# Altium schematic symbol library Sensor_Current.SchLib: 253 symbols (part 3 of 3)
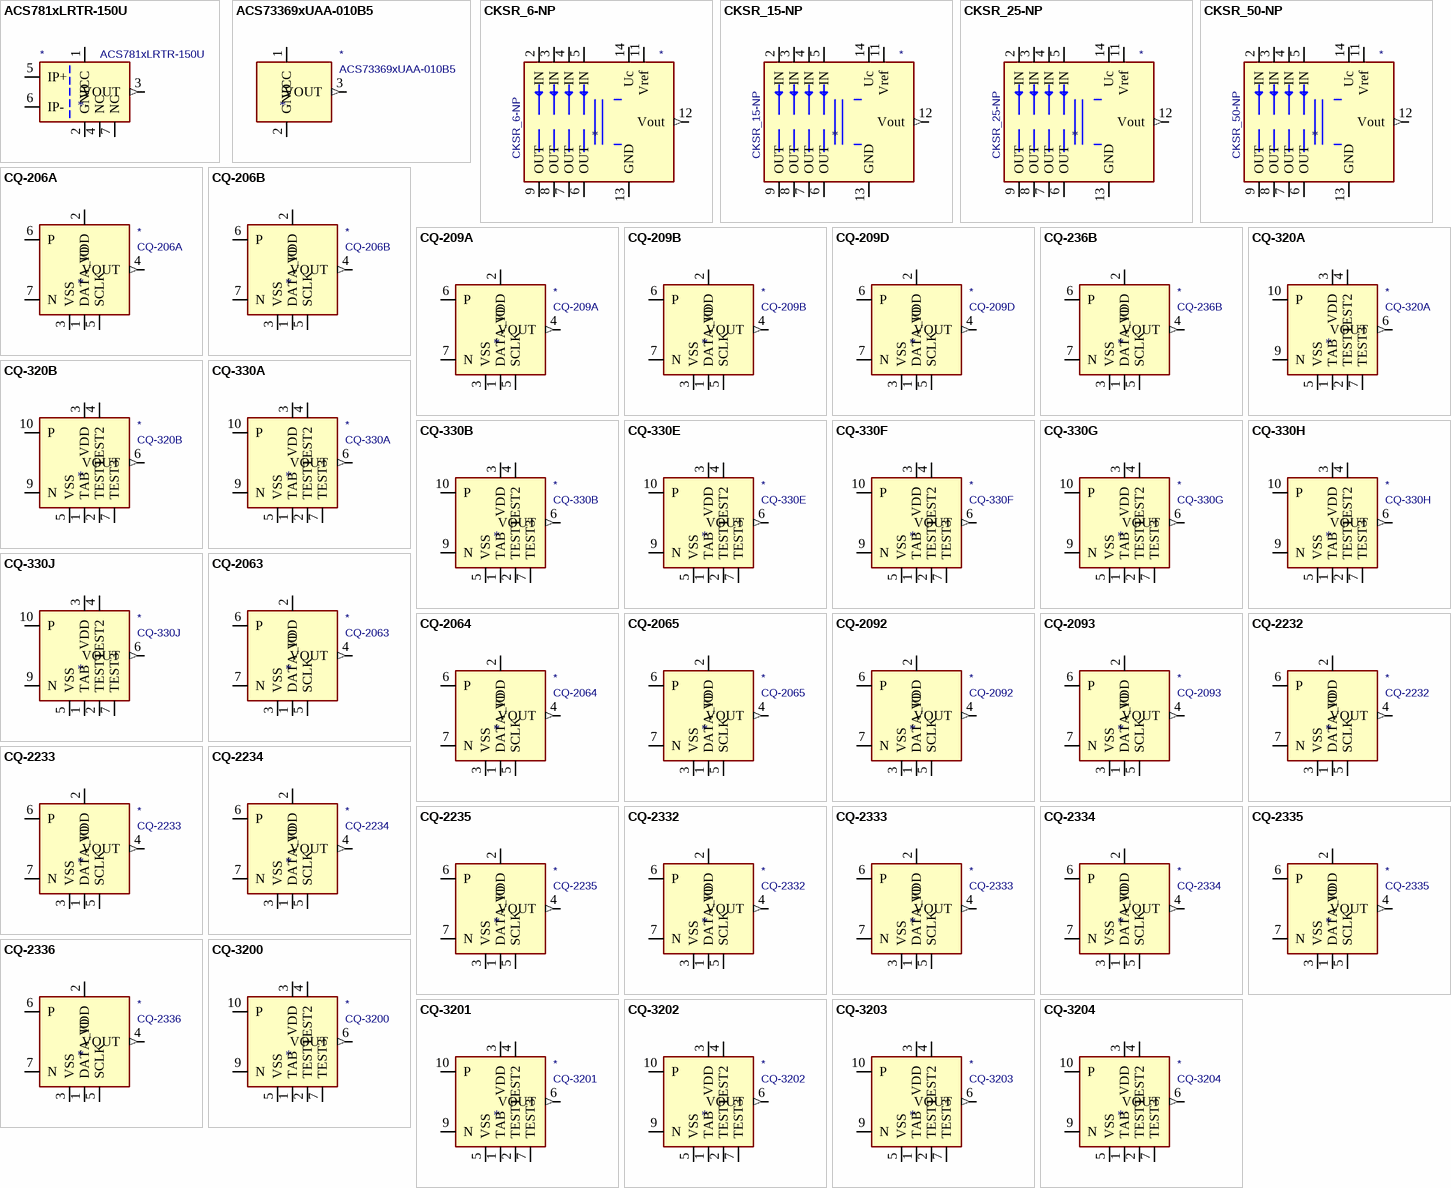
[diagram p8: symbols ACS781xLRTR-150U to CQ-3204]

## CQ-2065
designator *  value CQ-2065
ki_keywords: hall effect current sensor; ki_description: High-Speed Small-Sized Current Sensor, Bidirectional, -85A to +85A, 25mV/A, CQ-7; ki_fp_filters: AKM*CQ*; Footprint: Sensor_Current:AKM_CQ_7; Supplier: http://www.akm.com/akm/en/file/datasheet/CQ-2065.pdf
footprint AKM_CQ_7
pins: 1 DATA_IO (power), 2 VDD (power), 3 VSS (power), 4 VOUT (out), 5 SCLK (power), 6 P, 7 N

## CQ-2092
designator *  value CQ-2092
ki_keywords: hall effect current sensor; ki_description: High-Speed Small-Sized Current Sensor, Bidirectional, -21A to +21A, 100mV/A, CQ-7S; ki_fp_filters: AKM*CQ*S*; Footprint: Sensor_Current:AKM_CQ_7S; Supplier: http://www.akm.com/akm/en/file/datasheet/CQ-2092.pdf
footprint AKM_CQ_7S
pins: 1 DATA_IO (power), 2 VDD (power), 3 VSS (power), 4 VOUT (out), 5 SCLK (power), 6 P, 7 N

## CQ-2093
designator *  value CQ-2093
ki_keywords: hall effect current sensor; ki_description: High-Speed Small-Sized Current Sensor, Bidirectional, -35A to +35A, 60mV/A, CQ-7S; ki_fp_filters: AKM*CQ*S*; Footprint: Sensor_Current:AKM_CQ_7S; Supplier: http://www.akm.com/akm/en/file/datasheet/CQ-2093.pdf
footprint AKM_CQ_7S
pins: 1 DATA_IO (power), 2 VDD (power), 3 VSS (power), 4 VOUT (out), 5 SCLK (power), 6 P, 7 N

## CQ-2232
designator *  value CQ-2232
ki_keywords: hall effect current sensor; ki_description: High-Speed Small Current Sensor, Bidirectional, -21A to +21A, 62.5mV/A, CQ-7; ki_fp_filters: AKM*CQ*; Footprint: Sensor_Current:AKM_CQ_7; Supplier: http://www.akm.com/akm/en/file/datasheet/CQ-2232.pdf
footprint AKM_CQ_7
pins: 1 DATA_IO (power), 2 VDD (power), 3 VSS (power), 4 VOUT (out), 5 SCLK (power), 6 P, 7 N

## CQ-2233
designator *  value CQ-2233
ki_keywords: hall effect current sensor; ki_description: High-Speed Small Current Sensor, Bidirectional, -35A to +35A, 37.5mV/A, CQ-7; ki_fp_filters: AKM*CQ*; Footprint: Sensor_Current:AKM_CQ_7; Supplier: http://www.akm.com/akm/en/file/datasheet/CQ-2233.pdf
footprint AKM_CQ_7
pins: 1 DATA_IO (power), 2 VDD (power), 3 VSS (power), 4 VOUT (out), 5 SCLK (power), 6 P, 7 N

## CQ-2234
designator *  value CQ-2234
ki_keywords: hall effect current sensor; ki_description: High-Speed Small Current Sensor, Bidirectional, -54A to +54A, 24.5mV/A, CQ-7; ki_fp_filters: AKM*CQ*; Footprint: Sensor_Current:AKM_CQ_7; Supplier: http://www.akm.com/akm/en/file/datasheet/CQ-2234.pdf
footprint AKM_CQ_7
pins: 1 DATA_IO (power), 2 VDD (power), 3 VSS (power), 4 VOUT (out), 5 SCLK (power), 6 P, 7 N

## CQ-2235
designator *  value CQ-2235
ki_keywords: hall effect current sensor; ki_description: High-Speed Small Current Sensor, Bidirectional, -85A to +85A, 15.5mV/A, CQ-7; ki_fp_filters: AKM*CQ*; Footprint: Sensor_Current:AKM_CQ_7; Supplier: http://www.akm.com/akm/en/file/datasheet/CQ-2235.pdf
footprint AKM_CQ_7
pins: 1 DATA_IO (power), 2 VDD (power), 3 VSS (power), 4 VOUT (out), 5 SCLK (power), 6 P, 7 N

## CQ-2332
designator *  value CQ-2332
ki_keywords: hall effect current sensor; ki_description: High-Speed Small Current Sensor, Bidirectional, -21A to +21A, 100mV/A, CQ-7; ki_fp_filters: AKM*CQ*; Footprint: Sensor_Current:AKM_CQ_7; Supplier: http://www.akm.com/akm/en/file/datasheet/CQ-2332.pdf
footprint AKM_CQ_7
pins: 1 DATA_IO (power), 2 VDD (power), 3 VSS (power), 4 VOUT (out), 5 SCLK (power), 6 P, 7 N

## CQ-2333
designator *  value CQ-2333
ki_keywords: hall effect current sensor; ki_description: High-Speed Small Current Sensor, Bidirectional, -35A to +35A, 60mV/A, CQ-7; ki_fp_filters: AKM*CQ*; Footprint: Sensor_Current:AKM_CQ_7; Supplier: http://www.akm.com/akm/en/file/datasheet/CQ-2333.pdf
footprint AKM_CQ_7
pins: 1 DATA_IO (power), 2 VDD (power), 3 VSS (power), 4 VOUT (out), 5 SCLK (power), 6 P, 7 N

## CQ-2334
designator *  value CQ-2334
ki_keywords: hall effect current sensor; ki_description: High-Speed Small Current Sensor, Bidirectional, -54A to +54A, 40mV/A, CQ-7; ki_fp_filters: AKM*CQ*; Footprint: Sensor_Current:AKM_CQ_7; Supplier: http://www.akm.com/akm/en/file/datasheet/CQ-2334.pdf
footprint AKM_CQ_7
pins: 1 DATA_IO (power), 2 VDD (power), 3 VSS (power), 4 VOUT (out), 5 SCLK (power), 6 P, 7 N

## CQ-2335
designator *  value CQ-2335
ki_keywords: hall effect current sensor; ki_description: High-Speed Small Current Sensor, Bidirectional, -85A to +85A, 25mV/A, CQ-7; ki_fp_filters: AKM*CQ*; Footprint: Sensor_Current:AKM_CQ_7; Supplier: http://www.akm.com/akm/en/file/datasheet/CQ-2335.pdf
footprint AKM_CQ_7
pins: 1 DATA_IO (power), 2 VDD (power), 3 VSS (power), 4 VOUT (out), 5 SCLK (power), 6 P, 7 N

## CQ-2336
designator *  value CQ-2336
ki_keywords: hall effect current sensor; ki_description: High-Speed Small Current Sensor, Bidirectional, -170A to +170A, 12mV/A, CQ-7; ki_fp_filters: AKM*CQ*; Footprint: Sensor_Current:AKM_CQ_7; Supplier: http://www.akm.com/akm/en/file/datasheet/CQ-2335.pdf
footprint AKM_CQ_7
pins: 1 DATA_IO (power), 2 VDD (power), 3 VSS (power), 4 VOUT (out), 5 SCLK (power), 6 P, 7 N

## CQ-3200
designator *  value CQ-3200
ki_keywords: hall effect current sensor; ki_description: High-Speed Response Coreless Current Sensor, Bidirectional, -8.5A to +8.5A, 155mV/A, VSOP-24; ki_fp_filters: AKM*CQ*VSOP*5.6x7.9mm*P0.65mm*; Footprint: Sensor_Current:AKM_CQ_VSOP-24_5.6x7.9mm_P0.65mm; Supplier: http://www.akm.com/akm/en/file/datasheet/CQ-3200.pdf
footprint AKM_CQ_VSOP-24_5.6x7.9mm_P0.65mm
pins: 1 TAB (power), 2 TEST1 (power), 3 VDD (power), 4 TEST2 (power), 5 VSS (power), 6 VOUT (out), 7 TEST3 (power), 8 TAB hidden, 9 N, 10 P

## CQ-3201
designator *  value CQ-3201
ki_keywords: hall effect current sensor; ki_description: High-Speed Response Coreless Current Sensor, Bidirectional, -10.1A to +10.1A, 130mV/A, VSOP-24; ki_fp_filters: AKM*CQ*VSOP*5.6x7.9mm*P0.65mm*; Footprint: Sensor_Current:AKM_CQ_VSOP-24_5.6x7.9mm_P0.65mm; Supplier: http://www.akm.com/akm/en/file/datasheet/CQ-3201.pdf
footprint AKM_CQ_VSOP-24_5.6x7.9mm_P0.65mm
pins: 1 TAB (power), 2 TEST1 (power), 3 VDD (power), 4 TEST2 (power), 5 VSS (power), 6 VOUT (out), 7 TEST3 (power), 8 TAB hidden, 9 N, 10 P

## CQ-3202
designator *  value CQ-3202
ki_keywords: hall effect current sensor; ki_description: High-Speed Response Coreless Current Sensor, Bidirectional, -21.1A to +21.1A, 62.5mV/A, VSOP-24; ki_fp_filters: AKM*CQ*VSOP*5.6x7.9mm*P0.65mm*; Footprint: Sensor_Current:AKM_CQ_VSOP-24_5.6x7.9mm_P0.65mm; Supplier: http://www.akm.com/akm/en/file/datasheet/CQ-3202.pdf
footprint AKM_CQ_VSOP-24_5.6x7.9mm_P0.65mm
pins: 1 TAB (power), 2 TEST1 (power), 3 VDD (power), 4 TEST2 (power), 5 VSS (power), 6 VOUT (out), 7 TEST3 (power), 8 TAB hidden, 9 N, 10 P

## CQ-3203
designator *  value CQ-3203
ki_keywords: hall effect current sensor; ki_description: High-Speed Response Coreless Current Sensor, Bidirectional, -35.7A to +35.7A, 37mV/A, VSOP-24; ki_fp_filters: AKM*CQ*VSOP*5.6x7.9mm*P0.65mm*; Footprint: Sensor_Current:AKM_CQ_VSOP-24_5.6x7.9mm_P0.65mm; Supplier: http://www.akm.com/akm/en/file/datasheet/CQ-3203.pdf
footprint AKM_CQ_VSOP-24_5.6x7.9mm_P0.65mm
pins: 1 TAB (power), 2 TEST1 (power), 3 VDD (power), 4 TEST2 (power), 5 VSS (power), 6 VOUT (out), 7 TEST3 (power), 8 TAB hidden, 9 N, 10 P

## CQ-3204
designator *  value CQ-3204
ki_keywords: hall effect current sensor; ki_description: High-Speed Response Coreless Current Sensor, Bidirectional, -44.0A to +44.0A, 30mV/A, VSOP-24; ki_fp_filters: AKM*CQ*VSOP*5.6x7.9mm*P0.65mm*; Footprint: Sensor_Current:AKM_CQ_VSOP-24_5.6x7.9mm_P0.65mm; Supplier: http://www.akm.com/akm/en/file/datasheet/CQ-3204.pdf
footprint AKM_CQ_VSOP-24_5.6x7.9mm_P0.65mm
pins: 1 TAB (power), 2 TEST1 (power), 3 VDD (power), 4 TEST2 (power), 5 VSS (power), 6 VOUT (out), 7 TEST3 (power), 8 TAB hidden, 9 N, 10 P

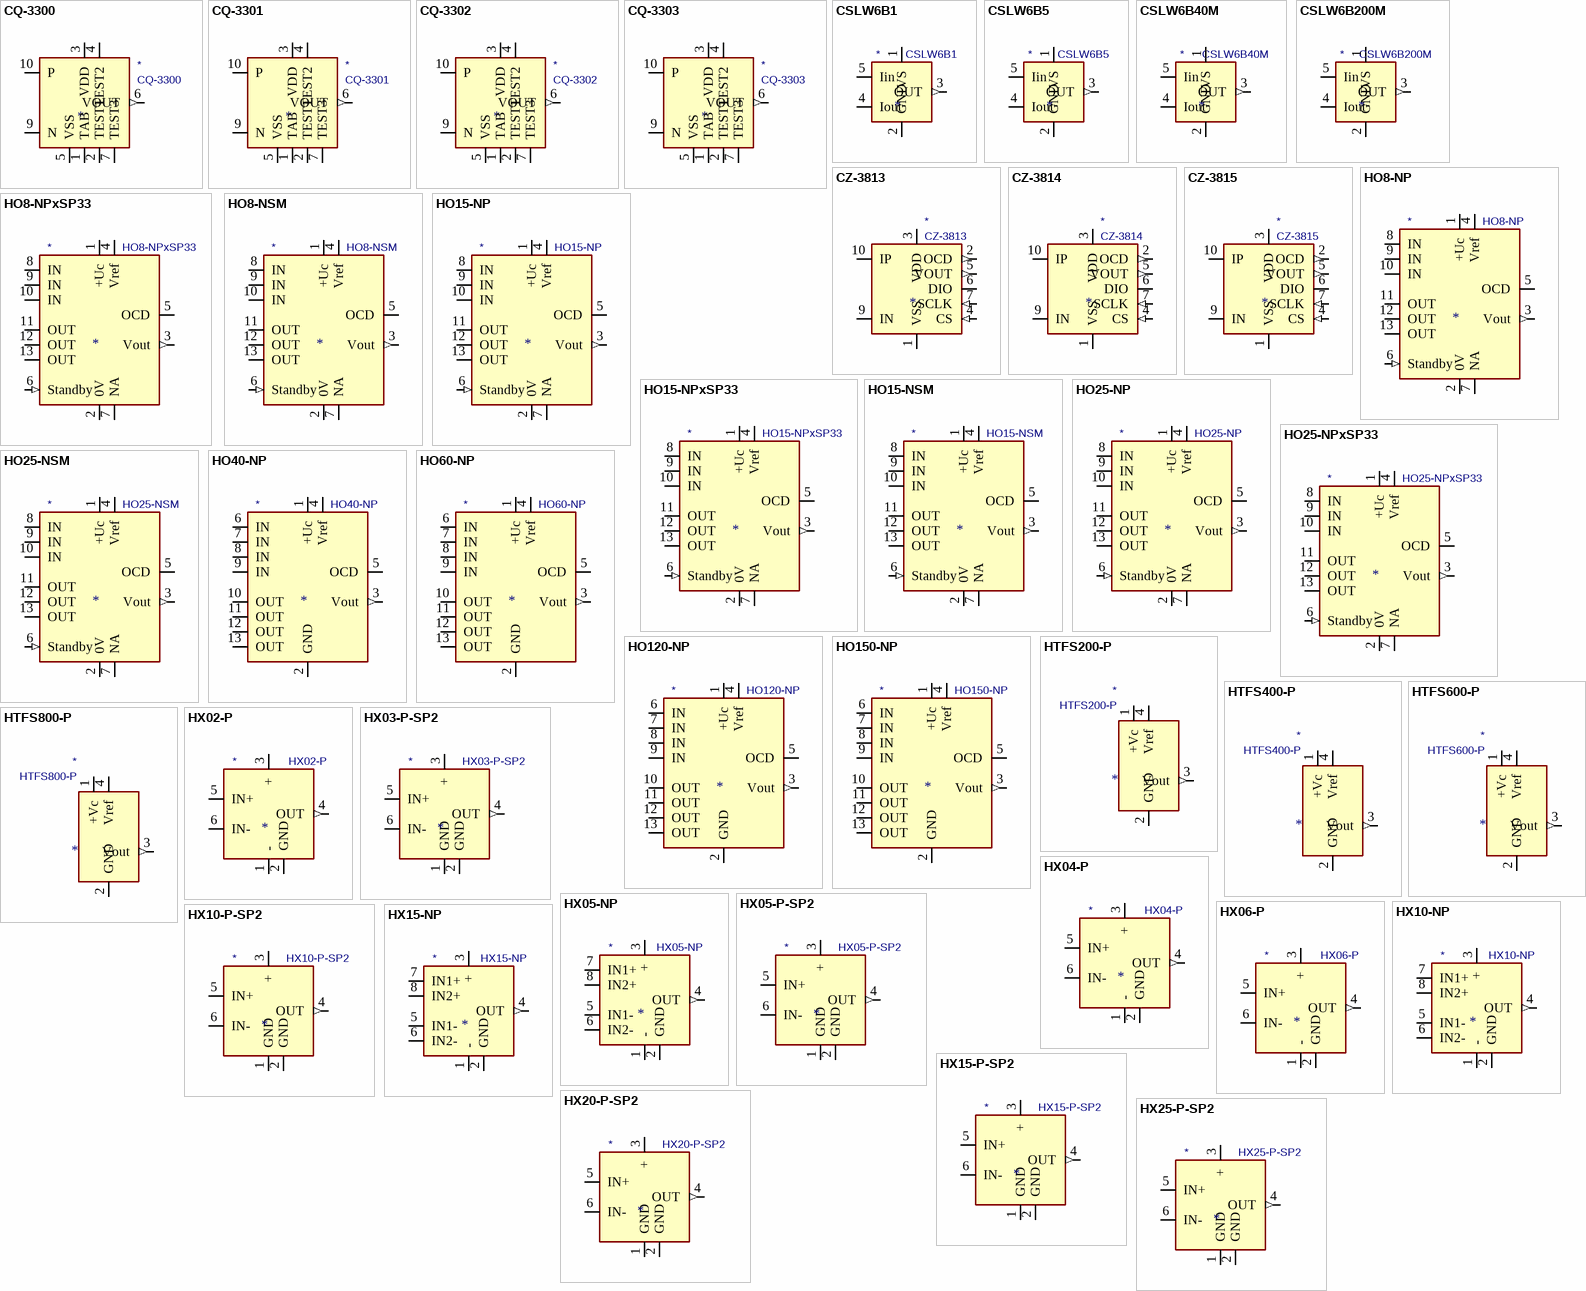
[diagram p5: symbols CQ-3300 to HX25-P-SP2]

## CQ-3300
designator *  value CQ-3300
ki_keywords: hall effect current sensor; ki_description: High-Speed Response Coreless Current Sensor, Bidirectional, -6.4A to +6.4A, 325mV/A, VSOP-24; ki_fp_filters: AKM*CQ*VSOP*5.6x7.9mm*P0.65mm*; Footprint: Sensor_Current:AKM_CQ_VSOP-24_5.6x7.9mm_P0.65mm; Supplier: http://www.akm.com/akm/en/file/datasheet/CQ-3300.pdf
footprint AKM_CQ_VSOP-24_5.6x7.9mm_P0.65mm
pins: 1 TAB (power), 2 TEST1 (power), 3 VDD (power), 4 TEST2 (power), 5 VSS (power), 6 VOUT (out), 7 TEST3 (power), 8 TAB hidden, 9 N, 10 P

## CQ-3301
designator *  value CQ-3301
ki_keywords: hall effect current sensor; ki_description: High-Speed Response Coreless Current Sensor, Bidirectional, -10.7A to +10.7A, 195mV/A, VSOP-24; ki_fp_filters: AKM*CQ*VSOP*5.6x7.9mm*P0.65mm*; Footprint: Sensor_Current:AKM_CQ_VSOP-24_5.6x7.9mm_P0.65mm; Supplier: http://www.akm.com/akm/en/file/datasheet/CQ-3301.pdf
footprint AKM_CQ_VSOP-24_5.6x7.9mm_P0.65mm
pins: 1 TAB (power), 2 TEST1 (power), 3 VDD (power), 4 TEST2 (power), 5 VSS (power), 6 VOUT (out), 7 TEST3 (power), 8 TAB hidden, 9 N, 10 P

## CQ-3302
designator *  value CQ-3302
ki_keywords: hall effect current sensor; ki_description: High-Speed Response Coreless Current Sensor, Bidirectional, -21.0A to +21.0A, 100mV/A, VSOP-24; ki_fp_filters: AKM*CQ*VSOP*5.6x7.9mm*P0.65mm*; Footprint: Sensor_Current:AKM_CQ_VSOP-24_5.6x7.9mm_P0.65mm; Supplier: http://www.akm.com/akm/en/file/datasheet/CQ-3302.pdf
footprint AKM_CQ_VSOP-24_5.6x7.9mm_P0.65mm
pins: 1 TAB (power), 2 TEST1 (power), 3 VDD (power), 4 TEST2 (power), 5 VSS (power), 6 VOUT (out), 7 TEST3 (power), 8 TAB hidden, 9 N, 10 P

## CQ-3303
designator *  value CQ-3303
ki_keywords: hall effect current sensor; ki_description: High-Speed Response Coreless Current Sensor, Bidirectional, -35.0A to +35.0A, 60mV/A, VSOP-24; ki_fp_filters: AKM*CQ*VSOP*5.6x7.9mm*P0.65mm*; Footprint: Sensor_Current:AKM_CQ_VSOP-24_5.6x7.9mm_P0.65mm; Supplier: http://www.akm.com/akm/en/file/datasheet/CQ-3303.pdf
footprint AKM_CQ_VSOP-24_5.6x7.9mm_P0.65mm
pins: 1 TAB (power), 2 TEST1 (power), 3 VDD (power), 4 TEST2 (power), 5 VSS (power), 6 VOUT (out), 7 TEST3 (power), 8 TAB hidden, 9 N, 10 P

## CSLW6B1
designator *  value CSLW6B1
ki_keywords: hall current sensor; ki_description: Miniature Wired Open-Loop Current Sensors, 1A; ki_fp_filters: Honeywell*CSLW*; Footprint: Sensor_Current:Honeywell_CSLW; Supplier: https://sensing.honeywell.com/honeywell-sensing-cslw-series-product-sheet-005861-1-en.pdf
footprint Honeywell_CSLW
pins: 1 VS (power), 2 GND (power), 3 OUT (out), 4 Iout, 5 Iin

## CSLW6B5
designator *  value CSLW6B5
ki_keywords: hall current sensor; ki_description: Miniature Wired Open-Loop Current Sensors, 5A; ki_fp_filters: Honeywell*CSLW*; Footprint: Sensor_Current:Honeywell_CSLW; Supplier: https://sensing.honeywell.com/honeywell-sensing-cslw-series-product-sheet-005861-1-en.pdf
footprint Honeywell_CSLW
pins: 1 VS (power), 2 GND (power), 3 OUT (out), 4 Iout, 5 Iin

## CSLW6B40M
designator *  value CSLW6B40M
ki_keywords: hall current sensor; ki_description: Miniature Wired Open-Loop Current Sensors, 40mA; ki_fp_filters: Honeywell*CSLW*; Footprint: Sensor_Current:Honeywell_CSLW; Supplier: https://sensing.honeywell.com/honeywell-sensing-cslw-series-product-sheet-005861-1-en.pdf
footprint Honeywell_CSLW
pins: 1 VS (power), 2 GND (power), 3 OUT (out), 4 Iout, 5 Iin

## CSLW6B200M
designator *  value CSLW6B200M
ki_keywords: hall current sensor; ki_description: Miniature Wired Open-Loop Current Sensors, 200mA; ki_fp_filters: Honeywell*CSLW*; Footprint: Sensor_Current:Honeywell_CSLW; Supplier: https://sensing.honeywell.com/honeywell-sensing-cslw-series-product-sheet-005861-1-en.pdf
footprint Honeywell_CSLW
pins: 1 VS (power), 2 GND (power), 3 OUT (out), 4 Iout, 5 Iin

## CZ-3813
designator *  value CZ-3813
ki_keywords: hall effect current sensor; ki_description: Coreless Current Sensor, Bidirectional, -33.0A to +33.0A, 60mV/A, VSOP-24; ki_fp_filters: AKM*CZ*SSOP*6.5x8.1mm*P0.95mm*; Footprint: Sensor_Current:AKM_CZ_SSOP-10_6.5x8.1mm_P0.95mm; Supplier: http://www.akm.com/akm/en/file/datasheet/CZ-3813.pdf
footprint AKM_CZ_SSOP-10_6.5x8.1mm_P0.95mm
pins: 1 VSS (power), 2 OCD (out), 3 VDD (power), 4 CS (in), 5 VOUT (out), 6 DIO (io), 7 SCLK (in), 8 VSS hidden, 9 IN, 10 IP

## CZ-3814
designator *  value CZ-3814
ki_keywords: hall effect current sensor; ki_description: Coreless Current Sensor, Bidirectional, -50.0A to +50.0A, 40mV/A, VSOP-24; ki_fp_filters: AKM*CZ*SSOP*6.5x8.1mm*P0.95mm*; Footprint: Sensor_Current:AKM_CZ_SSOP-10_6.5x8.1mm_P0.95mm; Supplier: http://www.akm.com/akm/en/file/datasheet/CZ-3814.pdf
footprint AKM_CZ_SSOP-10_6.5x8.1mm_P0.95mm
pins: 1 VSS (power), 2 OCD (out), 3 VDD (power), 4 CS (in), 5 VOUT (out), 6 DIO (io), 7 SCLK (in), 8 VSS hidden, 9 IN, 10 IP

## CZ-3815
designator *  value CZ-3815
ki_keywords: hall effect current sensor; ki_description: Coreless Current Sensor, Bidirectional, -60.0A to +60.0A, 33mV/A, VSOP-24; ki_fp_filters: AKM*CZ*SSOP*6.5x8.1mm*P0.95mm*; Footprint: Sensor_Current:AKM_CZ_SSOP-10_6.5x8.1mm_P0.95mm; Supplier: http://www.akm.com/akm/en/file/datasheet/CZ-3815.pdf
footprint AKM_CZ_SSOP-10_6.5x8.1mm_P0.95mm
pins: 1 VSS (power), 2 OCD (out), 3 VDD (power), 4 CS (in), 5 VOUT (out), 6 DIO (io), 7 SCLK (in), 8 VSS hidden, 9 IN, 10 IP

## HO8-NP
designator *  value HO8-NP
ki_keywords: current transducer; ki_description: Current Transducer, 8A, Unipolar, 5V; ki_fp_filters: LEM*HO8*NP*; Footprint: Sensor_Current:LEM_HO8-NP; Supplier: https://www.lem.com/sites/default/files/products_datasheets/ho-np-0000_series.pdf
footprint LEM_HO8-NP
pins: 1 +Uc (power), 2 0V (power), 3 Vout (out), 4 Vref, 5 OCD (oc), 6 Standby (in), 7 NA, 8 IN, 9 IN, 10 IN, 11 OUT, 12 OUT, 13 OUT

## HO8-NPxSP33
designator *  value HO8-NPxSP33
ki_keywords: current transducer; ki_description: Current Transducer, 8A, Unipolar, 3.3V; ki_fp_filters: LEM*HO8*NP*; Footprint: Sensor_Current:LEM_HO8-NP; Supplier: https://www.lem.com/sites/default/files/products_datasheets/ho-np_sp33-1000_series.pdf
footprint LEM_HO8-NP
pins: 1 +Uc (power), 2 0V (power), 3 Vout (out), 4 Vref, 5 OCD (oc), 6 Standby (in), 7 NA, 8 IN, 9 IN, 10 IN, 11 OUT, 12 OUT, 13 OUT

## HO8-NSM
designator *  value HO8-NSM
ki_keywords: current transducer; ki_description: Current Transducer, 8A, Unipolar, 5V; ki_fp_filters: LEM*HO8*NSM*; Footprint: Sensor_Current:LEM_HO8-NSM; Supplier: https://www.lem.com/sites/default/files/products_datasheets/ho-nsm-0000_series.pdf
footprint LEM_HO8-NSM
pins: 1 +Uc (power), 2 0V (power), 3 Vout (out), 4 Vref, 5 OCD (oc), 6 Standby (in), 7 NA, 8 IN, 9 IN, 10 IN, 11 OUT, 12 OUT, 13 OUT

## HO15-NP
designator *  value HO15-NP
ki_keywords: current transducer; ki_description: Current Transducer, 15A, Unipolar, 5V; ki_fp_filters: LEM*HO8*NP*; Footprint: Sensor_Current:LEM_HO8-NP; Supplier: https://www.lem.com/sites/default/files/products_datasheets/ho-np-0000_series.pdf
footprint LEM_HO8-NP
pins: 1 +Uc (power), 2 0V (power), 3 Vout (out), 4 Vref, 5 OCD (oc), 6 Standby (in), 7 NA, 8 IN, 9 IN, 10 IN, 11 OUT, 12 OUT, 13 OUT

## HO15-NPxSP33
designator *  value HO15-NPxSP33
ki_keywords: current transducer; ki_description: Current Transducer, 15A, Unipolar, 3.3V; ki_fp_filters: LEM*HO8*NP*; Footprint: Sensor_Current:LEM_HO8-NP; Supplier: https://www.lem.com/sites/default/files/products_datasheets/ho-np_sp33-1000_series.pdf
footprint LEM_HO8-NP
pins: 1 +Uc (power), 2 0V (power), 3 Vout (out), 4 Vref, 5 OCD (oc), 6 Standby (in), 7 NA, 8 IN, 9 IN, 10 IN, 11 OUT, 12 OUT, 13 OUT

## HO15-NSM
designator *  value HO15-NSM
ki_keywords: current transducer; ki_description: Current Transducer, 15A, Unipolar, 5V; ki_fp_filters: LEM*HO8*NSM*; Footprint: Sensor_Current:LEM_HO8-NSM; Supplier: https://www.lem.com/sites/default/files/products_datasheets/ho-nsm-0000_series.pdf
footprint LEM_HO8-NSM
pins: 1 +Uc (power), 2 0V (power), 3 Vout (out), 4 Vref, 5 OCD (oc), 6 Standby (in), 7 NA, 8 IN, 9 IN, 10 IN, 11 OUT, 12 OUT, 13 OUT

## HO25-NP
designator *  value HO25-NP
ki_keywords: current transducer; ki_description: Current Transducer, 25A, Unipolar, 5V; ki_fp_filters: LEM*HO8*NP*; Footprint: Sensor_Current:LEM_HO8-NP; Supplier: https://www.lem.com/sites/default/files/products_datasheets/ho-np-0000_series.pdf
footprint LEM_HO8-NP
pins: 1 +Uc (power), 2 0V (power), 3 Vout (out), 4 Vref, 5 OCD (oc), 6 Standby (in), 7 NA, 8 IN, 9 IN, 10 IN, 11 OUT, 12 OUT, 13 OUT

## HO25-NPxSP33
designator *  value HO25-NPxSP33
ki_keywords: current transducer; ki_description: Current Transducer, 25A, Unipolar, 3.3V; ki_fp_filters: LEM*HO8*NP*; Footprint: Sensor_Current:LEM_HO8-NP; Supplier: https://www.lem.com/sites/default/files/products_datasheets/ho-np_sp33-1000_series.pdf
footprint LEM_HO8-NP
pins: 1 +Uc (power), 2 0V (power), 3 Vout (out), 4 Vref, 5 OCD (oc), 6 Standby (in), 7 NA, 8 IN, 9 IN, 10 IN, 11 OUT, 12 OUT, 13 OUT

## HO25-NSM
designator *  value HO25-NSM
ki_keywords: current transducer; ki_description: Current Transducer, 25A, Unipolar, 5V; ki_fp_filters: LEM*HO8*NSM*; Footprint: Sensor_Current:LEM_HO8-NSM; Supplier: https://www.lem.com/sites/default/files/products_datasheets/ho-nsm-0000_series.pdf
footprint LEM_HO8-NSM
pins: 1 +Uc (power), 2 0V (power), 3 Vout (out), 4 Vref, 5 OCD (oc), 6 Standby (in), 7 NA, 8 IN, 9 IN, 10 IN, 11 OUT, 12 OUT, 13 OUT

## HO40-NP
designator *  value HO40-NP
ki_keywords: current transducer; ki_description: Current Transducer, 40A, Unipolar, 5V; ki_fp_filters: LEM*HO40*NP*; Footprint: Sensor_Current:LEM_HO40-NP; Supplier: https://www.lem.com/sites/default/files/products_datasheets/ho-np_0100__1100_series.pdf
footprint LEM_HO40-NP
pins: 1 +Uc (power), 2 GND (power), 3 Vout (out), 4 Vref, 5 OCD (oc), 6 IN, 7 IN, 8 IN, 9 IN, 10 OUT, 11 OUT, 12 OUT, 13 OUT

## HO60-NP
designator *  value HO60-NP
ki_keywords: current transducer; ki_description: Current Transducer, 60A, Unipolar, 5V; ki_fp_filters: LEM*HO40*NP*; Footprint: Sensor_Current:LEM_HO40-NP; Supplier: https://www.lem.com/sites/default/files/products_datasheets/ho-np_0100__1100_series.pdf
footprint LEM_HO40-NP
pins: 1 +Uc (power), 2 GND (power), 3 Vout (out), 4 Vref, 5 OCD (oc), 6 IN, 7 IN, 8 IN, 9 IN, 10 OUT, 11 OUT, 12 OUT, 13 OUT

## HO120-NP
designator *  value HO120-NP
ki_keywords: current transducer; ki_description: Current Transducer, 40A, Unipolar, 5V; ki_fp_filters: LEM*HO40*NP*; Footprint: Sensor_Current:LEM_HO40-NP; Supplier: https://www.lem.com/sites/default/files/products_datasheets/ho-np_0100__1100_series.pdf
footprint LEM_HO40-NP
pins: 1 +Uc (power), 2 GND (power), 3 Vout (out), 4 Vref, 5 OCD (oc), 6 IN, 7 IN, 8 IN, 9 IN, 10 OUT, 11 OUT, 12 OUT, 13 OUT

## HO150-NP
designator *  value HO150-NP
ki_keywords: current transducer; ki_description: Current Transducer, 40A, Unipolar, 5V; ki_fp_filters: LEM*HO40*NP*; Footprint: Sensor_Current:LEM_HO40-NP; Supplier: https://www.lem.com/sites/default/files/products_datasheets/ho-np_0100__1100_series.pdf
footprint LEM_HO40-NP
pins: 1 +Uc (power), 2 GND (power), 3 Vout (out), 4 Vref, 5 OCD (oc), 6 IN, 7 IN, 8 IN, 9 IN, 10 OUT, 11 OUT, 12 OUT, 13 OUT

## HTFS200-P
designator *  value HTFS200-P
ki_keywords: current transducer; ki_description: Current Transducer, 200A, Unipolar, 5V; ki_fp_filters: LEM*HTFS*; Footprint: Sensor_Current:LEM_HTFS; Supplier: https://www.lem.com/sites/default/files/products_datasheets/htfs_200_800-p.pdf
footprint LEM_HTFS
pins: 1 +Vc (power), 2 GND (power), 3 Vout (out), 4 Vref

## HTFS400-P
designator *  value HTFS400-P
ki_keywords: current transducer; ki_description: Current Transducer, 400A, Unipolar, 5V; ki_fp_filters: LEM*HTFS*; Footprint: Sensor_Current:LEM_HTFS; Supplier: https://www.lem.com/sites/default/files/products_datasheets/htfs_200_800-p.pdf
footprint LEM_HTFS
pins: 1 +Vc (power), 2 GND (power), 3 Vout (out), 4 Vref

## HTFS600-P
designator *  value HTFS600-P
ki_keywords: current transducer; ki_description: Current Transducer, 600A, Unipolar, 5V; ki_fp_filters: LEM*HTFS*; Footprint: Sensor_Current:LEM_HTFS; Supplier: https://www.lem.com/sites/default/files/products_datasheets/htfs_200_800-p.pdf
footprint LEM_HTFS
pins: 1 +Vc (power), 2 GND (power), 3 Vout (out), 4 Vref

## HTFS800-P
designator *  value HTFS800-P
ki_keywords: current transducer; ki_description: Current Transducer, 800A, Unipolar, 5V; ki_fp_filters: LEM*HTFS*; Footprint: Sensor_Current:LEM_HTFS; Supplier: https://www.lem.com/sites/default/files/products_datasheets/htfs_200_800-p.pdf
footprint LEM_HTFS
pins: 1 +Vc (power), 2 GND (power), 3 Vout (out), 4 Vref

## HX02-P
designator *  value HX02-P
ki_keywords: current transducer; ki_description: Current Transducer, 2A, Bipolar, +/-15V; ki_fp_filters: LEM*HX02*P*; Footprint: Sensor_Current:LEM_HX02-P; Supplier: https://www.lem.com/sites/default/files/products_datasheets/hx%202_6-p_e%20v5.pdf
footprint LEM_HX02-P
pins: 1 - (power), 2 GND (power), 3 + (power), 4 OUT (out), 5 IN+, 6 IN-

## HX03-P-SP2
designator *  value HX03-P-SP2
ki_keywords: current transducer; ki_description: Current Transducer, 3A, Unipolar, +/-15V; ki_fp_filters: LEM*HX03*P*SP2*; Footprint: Sensor_Current:LEM_HX03-P-SP2; Supplier: https://www.lem.com/sites/default/files/products_datasheets/hx%203_50-p_sp2_e%20v07.pdf
footprint LEM_HX03-P-SP2
pins: 1 GND (power), 2 GND (power), 3 + (power), 4 OUT (out), 5 IN+, 6 IN-

## HX04-P
designator *  value HX04-P
ki_keywords: current transducer; ki_description: Current Transducer, 4A, Bipolar, +/-15V; ki_fp_filters: LEM*HX04*P*; Footprint: Sensor_Current:LEM_HX04-P; Supplier: https://www.lem.com/sites/default/files/products_datasheets/hx%202_6-p_e%20v5.pdf
footprint LEM_HX04-P
pins: 1 - (power), 2 GND (power), 3 + (power), 4 OUT (out), 5 IN+, 6 IN-

## HX05-NP
designator *  value HX05-NP
ki_keywords: current transducer; ki_description: Current Transducer, 5A, Bipolar, +/-15V; ki_fp_filters: LEM*HX05*NP*; Footprint: Sensor_Current:LEM_HX05-NP; Supplier: https://www.lem.com/sites/default/files/products_datasheets/hx%205_15-np_e%20v10.pdf
footprint LEM_HX05-NP
pins: 1 - (power), 2 GND (power), 3 + (power), 4 OUT (out), 5 IN1-, 6 IN2-, 7 IN1+, 8 IN2+

## HX05-P-SP2
designator *  value HX05-P-SP2
ki_keywords: current transducer; ki_description: Current Transducer, 5A, Unipolar, +/-15V; ki_fp_filters: LEM*HX05*P*SP2*; Footprint: Sensor_Current:LEM_HX05-P-SP2; Supplier: https://www.lem.com/sites/default/files/products_datasheets/hx%203_50-p_sp2_e%20v07.pdf
footprint LEM_HX05-P-SP2
pins: 1 GND (power), 2 GND (power), 3 + (power), 4 OUT (out), 5 IN+, 6 IN-

## HX06-P
designator *  value HX06-P
ki_keywords: current transducer; ki_description: Current Transducer, 6A, Bipolar, +/-15V; ki_fp_filters: LEM*HX06*P*; Footprint: Sensor_Current:LEM_HX06-P; Supplier: https://www.lem.com/sites/default/files/products_datasheets/hx%202_6-p_e%20v5.pdf
footprint LEM_HX06-P
pins: 1 - (power), 2 GND (power), 3 + (power), 4 OUT (out), 5 IN+, 6 IN-

## HX10-NP
designator *  value HX10-NP
ki_keywords: current transducer; ki_description: Current Transducer, 10A, Bipolar, +/-15V; ki_fp_filters: LEM*HX10*NP*; Footprint: Sensor_Current:LEM_HX10-NP; Supplier: https://www.lem.com/sites/default/files/products_datasheets/hx%205_15-np_e%20v10.pdf
footprint LEM_HX10-NP
pins: 1 - (power), 2 GND (power), 3 + (power), 4 OUT (out), 5 IN1-, 6 IN2-, 7 IN1+, 8 IN2+

## HX10-P-SP2
designator *  value HX10-P-SP2
ki_keywords: current transducer; ki_description: Current Transducer, 10A, Unipolar, +/-15V; ki_fp_filters: LEM*HX10*P*SP2*; Footprint: Sensor_Current:LEM_HX10-P-SP2; Supplier: https://www.lem.com/sites/default/files/products_datasheets/hx%203_50-p_sp2_e%20v07.pdf
footprint LEM_HX10-P-SP2
pins: 1 GND (power), 2 GND (power), 3 + (power), 4 OUT (out), 5 IN+, 6 IN-

## HX15-NP
designator *  value HX15-NP
ki_keywords: current transducer; ki_description: Current Transducer, 15A, Bipolar, +/-15V; ki_fp_filters: LEM*HX15*NP*; Footprint: Sensor_Current:LEM_HX15-NP; Supplier: https://www.lem.com/sites/default/files/products_datasheets/hx%205_15-np_e%20v10.pdf
footprint LEM_HX15-NP
pins: 1 - (power), 2 GND (power), 3 + (power), 4 OUT (out), 5 IN1-, 6 IN2-, 7 IN1+, 8 IN2+

## HX15-P-SP2
designator *  value HX15-P-SP2
ki_keywords: current transducer; ki_description: Current Transducer, 15A, Unipolar, +/-15V; ki_fp_filters: LEM*HX15*P*SP2*; Footprint: Sensor_Current:LEM_HX15-P-SP2; Supplier: https://www.lem.com/sites/default/files/products_datasheets/hx%203_50-p_sp2_e%20v07.pdf
footprint LEM_HX15-P-SP2
pins: 1 GND (power), 2 GND (power), 3 + (power), 4 OUT (out), 5 IN+, 6 IN-

## HX20-P-SP2
designator *  value HX20-P-SP2
ki_keywords: current transducer; ki_description: Current Transducer, 20A, Unipolar, +/-15V; ki_fp_filters: LEM*HX20*P*SP2*; Footprint: Sensor_Current:LEM_HX20-P-SP2; Supplier: https://www.lem.com/sites/default/files/products_datasheets/hx%203_50-p_sp2_e%20v07.pdf
footprint LEM_HX20-P-SP2
pins: 1 GND (power), 2 GND (power), 3 + (power), 4 OUT (out), 5 IN+, 6 IN-

## HX25-P-SP2
designator *  value HX25-P-SP2
ki_keywords: current transducer; ki_description: Current Transducer, 25A, Unipolar, +/-15V; ki_fp_filters: LEM*HX25*P*SP2*; Footprint: Sensor_Current:LEM_HX25-P-SP2; Supplier: https://www.lem.com/sites/default/files/products_datasheets/hx%203_50-p_sp2_e%20v07.pdf
footprint LEM_HX25-P-SP2
pins: 1 GND (power), 2 GND (power), 3 + (power), 4 OUT (out), 5 IN+, 6 IN-

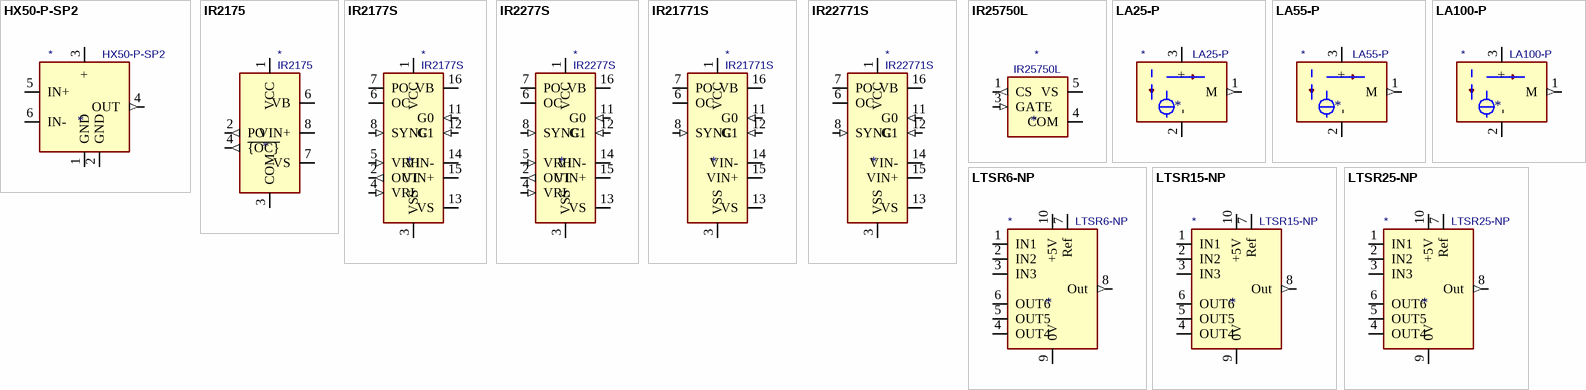
[diagram p6: symbols HX50-P-SP2 to LTSR25-NP]

## HX50-P-SP2
designator *  value HX50-P-SP2
ki_keywords: current transducer; ki_description: Current Transducer, 50A, Unipolar, +/-15V; ki_fp_filters: LEM*HX50*P*SP2*; Footprint: Sensor_Current:LEM_HX50-P-SP2; Supplier: https://www.lem.com/sites/default/files/products_datasheets/hx%203_50-p_sp2_e%20v07.pdf
footprint LEM_HX50-P-SP2
pins: 1 GND (power), 2 GND (power), 3 + (power), 4 OUT (out), 5 IN+, 6 IN-

## IR2175
designator *  value IR2175
ki_keywords: half bridge current sense; ki_description: Linear Current Sensing IC, PWM output, 600V, PDIP-8/SOIC-8; ki_fp_filters: SOIC*3.9x4.9mm*P1.27mm* DIP*W7.62mm*; Supplier: https://www.infineon.com/dgdl/ir2175.pdf?fileId=5546d462533600a4015355c9161216c6
pins: 1 VCC (power), 2 PO (out), 3 COM (power), 4 ~{{OC}} (out), 5 NC (in) hidden, 6 VB, 7 VS, 8 VIN+

## IR2177S
designator *  value IR2177S
ki_keywords: half bridge current sense; ki_description: Phase Current Sensor IC for AC Motor Control, PWM and ADC output, 600V, SOIC-16W; ki_fp_filters: SOIC*W*7.5x10.3mm*P1.27mm*; Footprint: Package_SO:SOIC-16W_7.5x10.3mm_P1.27mm; Supplier: https://www.infineon.com/dgdl/ir2177s.pdf?fileId=5546d462533600a4015355c92e7416cb
footprint SOIC-16W_7.5x10.3mm_P1.27mm
pins: 1 VCC (power), 2 OUT (out), 3 VSS (power), 4 VRL (in), 5 VRH (in), 6 OC (oc), 7 PO (oc), 8 SYNC (in), 9 NC (in) hidden, 10 NC (in) hidden, 11 G0 (in), 12 G1 (in), 13 VS, 14 VIN-, 15 VIN+, 16 VB

## IR2277S
designator *  value IR2277S
ki_keywords: half bridge current sense; ki_description: Phase Current Sensor IC for AC Motor Control, PWM and ADC output, 1200V, SOIC-16W; ki_fp_filters: SOIC*W*7.5x10.3mm*P1.27mm*; Footprint: Package_SO:SOIC-16W_7.5x10.3mm_P1.27mm; Supplier: https://www.infineon.com/dgdl/ir2177s.pdf?fileId=5546d462533600a4015355c92e7416cb
footprint SOIC-16W_7.5x10.3mm_P1.27mm
pins: 1 VCC (power), 2 OUT (out), 3 VSS (power), 4 VRL (in), 5 VRH (in), 6 OC (oc), 7 PO (oc), 8 SYNC (in), 9 NC (in) hidden, 10 NC (in) hidden, 11 G0 (in), 12 G1 (in), 13 VS, 14 VIN-, 15 VIN+, 16 VB

## IR21771S
designator *  value IR21771S
ki_keywords: half bridge current sense; ki_description: Phase Current Sensor IC for AC Motor Control, PWM output, 600V, SOIC-16W; ki_fp_filters: SOIC*W*7.5x10.3mm*P1.27mm*; Footprint: Package_SO:SOIC-16W_7.5x10.3mm_P1.27mm; Supplier: https://www.infineon.com/dgdl/ir21771s.pdf?fileId=5546d462533600a4015355c9222c16c8
footprint SOIC-16W_7.5x10.3mm_P1.27mm
pins: 1 VCC (power), 2 NC (in) hidden, 3 VSS (power), 4 NC (in) hidden, 5 NC (in) hidden, 6 OC (oc), 7 PO (oc), 8 SYNC (in), 9 NC (in) hidden, 10 NC (in) hidden, 11 G0 (in), 12 G1 (in), 13 VS, 14 VIN-, 15 VIN+, 16 VB

## IR22771S
designator *  value IR22771S
ki_keywords: half bridge current sense; ki_description: Phase Current Sensor IC for AC Motor Control, PWM output, 1200V, SOIC-16W; ki_fp_filters: SOIC*W*7.5x10.3mm*P1.27mm*; Footprint: Package_SO:SOIC-16W_7.5x10.3mm_P1.27mm; Supplier: https://www.infineon.com/dgdl/ir21771s.pdf?fileId=5546d462533600a4015355c9222c16c8
footprint SOIC-16W_7.5x10.3mm_P1.27mm
pins: 1 VCC (power), 2 NC (in) hidden, 3 VSS (power), 4 NC (in) hidden, 5 NC (in) hidden, 6 OC (oc), 7 PO (oc), 8 SYNC (in), 9 NC (in) hidden, 10 NC (in) hidden, 11 G0 (in), 12 G1 (in), 13 VS, 14 VIN-, 15 VIN+, 16 VB

## IR25750L
designator *  value IR25750L
ki_keywords: single current sense; ki_description: Current Sensing IC, 600V, SOT-23-5; ki_fp_filters: SOT?23*; Footprint: Package_TO_SOT_SMD:SOT-23-5; Supplier: https://www.infineon.com/dgdl/ir25750lpbf.pdf?fileId=5546d462533600a4015355ca1d0e16f7
footprint SOT-23-5
pins: 1 CS (out), 2 NC (in) hidden, 3 GATE (in), 4 COM (power), 5 VS

## LA25-P
designator *  value LA25-P
ki_keywords: current transducer; ki_description: Current Transducer, 25A, Bipolar, +/-15V; ki_fp_filters: LEM*LA25*P*; Footprint: Sensor_Current:LEM_LA25-P; Supplier: https://www.lem.com/sites/default/files/products_datasheets/la_25-p.pdf
footprint LEM_LA25-P
pins: 1 M (out), 2 - (power), 3 + (power)

## LA55-P
designator *  value LA55-P
ki_keywords: current transducer; ki_description: Current Transducer, 50A, Bipolar, +/-15V; ki_fp_filters: LEM*LA25*P*; Footprint: Sensor_Current:LEM_LA25-P; Supplier: https://www.lem.com/sites/default/files/products_datasheets/la_55-p_e.pdf
footprint LEM_LA25-P
pins: 1 M (out), 2 - (power), 3 + (power)

## LA100-P
designator *  value LA100-P
ki_keywords: current transducer; ki_description: Current Transducer, 100A, Bipolar, +/-15V; ki_fp_filters: LEM*LA25*P*; Footprint: Sensor_Current:LEM_LA25-P; Supplier: https://www.lem.com/sites/default/files/products_datasheets/la_100-p_e_.pdf
footprint LEM_LA25-P
pins: 1 M (out), 2 - (power), 3 + (power)

## LTSR6-NP
designator *  value LTSR6-NP
ki_keywords: current transducer; ki_description: Current Transducer, Unipolar, 6A, 5V supply, DC, AC, pulsed; ki_fp_filters: LEM*LTSR*NP*; Footprint: Sensor_Current:LEM_LTSR-NP; Supplier: https://www.lem.com/sites/default/files/products_datasheets/ltsr_6-np.pdf
footprint LEM_LTSR-NP
pins: 1 IN1, 2 IN2, 3 IN3, 4 OUT4, 5 OUT5, 6 OUT6, 7 Ref, 8 Out (out), 9 0V (power), 10 +5V (power)

## LTSR15-NP
designator *  value LTSR15-NP
ki_keywords: current transducer; ki_description: Current Transducer, Unipolar, 15A, 5V supply, DC, AC, pulsed; ki_fp_filters: LEM*LTSR*NP*; Footprint: Sensor_Current:LEM_LTSR-NP; Supplier: https://www.lem.com/sites/default/files/products_datasheets/ltsr_15-np.pdf
footprint LEM_LTSR-NP
pins: 1 IN1, 2 IN2, 3 IN3, 4 OUT4, 5 OUT5, 6 OUT6, 7 Ref, 8 Out (out), 9 0V (power), 10 +5V (power)

## LTSR25-NP
designator *  value LTSR25-NP
ki_keywords: current transducer; ki_description: Current Transducer, Unipolar, 25A, 5V supply, DC, AC, pulsed; ki_fp_filters: LEM*LTSR*NP*; Footprint: Sensor_Current:LEM_LTSR-NP; Supplier: https://www.lem.com/sites/default/files/products_datasheets/ltsr_25-np.pdf
footprint LEM_LTSR-NP
pins: 1 IN1, 2 IN2, 3 IN3, 4 OUT4, 5 OUT5, 6 OUT6, 7 Ref, 8 Out (out), 9 0V (power), 10 +5V (power)